# EAGLE library part WH1202A (library X893)
http://catalog.compel.ru/lcm/info/WH1202A-TMI-CT%20%28WINSTAR%29
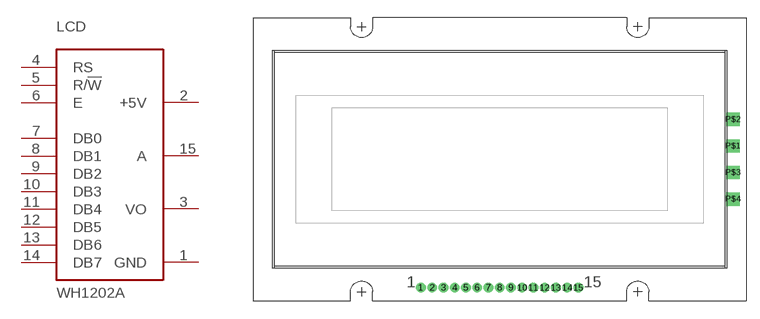
[diagram p77: symbol with the pads of WH1202A; footprint WH1202A]

Designator prefix LCD

## WH1202A  [WH1202A]
1  GND  pwr
2  +5V  pas
3  VO  pas
4  RS  in
5  R/!W  in
6  E  in
7  DB0
8  DB1
9  DB2
10  DB3
11  DB4
12  DB5
13  DB6
14  DB7
15  A  pas

## Footprint WH1202A (pad centres in mm)
drill 0.6 pad 1: 1 -8.89,-14.5; 2 -7.62,-14.5; 3 -6.35,-14.5; 4 -5.08,-14.5; 5 -3.81,-14.5; 6 -2.54,-14.5; 7 -1.27,-14.5; 8 0,-14.5; 9 1.27,-14.5; 10 2.54,-14.5; 11 3.81,-14.5; 12 5.08,-14.5; 13 6.35,-14.5; 14 7.62,-14.5; 15 8.89,-14.5
drill 1 square: P$1 26.35,1.5; P$2 26.35,4.5; P$3 26.35,-1.5; P$4 26.35,-4.5